# Altium schematic symbol library BATTERIES.SchLib: 3 symbols
Pins are listed as number, name and electrical type; pins without a type are passive.

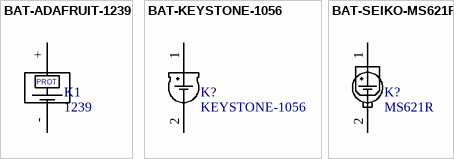
[diagram p0: symbols BAT-ADAFRUIT-1239 to BAT-SEIKO-MS621R]

## BAT-ADAFRUIT-1239
designator K1, comment 1239
BU2032SM-HD-G; Supplier 1: Digi-Key; Supplier Part Number 1: BU2032SM-HD-GDKR-ND
footprint BATCLIP-CR2032 (BATTERY CLIP 2032 SMD)
pins: +, -
text: PROT

## BAT-KEYSTONE-1056
designator K?, comment KEYSTONE-1056
BAT,HOLDER 1220,SMD; Supplier 1: Digikey; Supplier Part Number 1: 36-1056-ND
footprint BAT-KEYSTONE-1056 (1220 BATTERY HOLDER)
pins: 1 +, 2 -

## BAT-SEIKO-MS621R
designator K?, comment MS621R
BAT,3V,SMD,SEIKO MS621R; Supplier 1: Digikey; Supplier Part Number 1: 36-1056-ND
footprint BAT-SEIKO-MS621R
pins: 1 +, 2 -